# Altium footprint library lib.PcbLib: 64 footprints (part 2 of 4)
Each footprint in its own frame and in the unit in brackets; x right, y up, seen from the top. Pads: shape width x height; smd on the part's side, far side on the other; paste and mask are expansions set on the pad; w line width, h text height; cw(c..) or ccw(c..) is an arc to the next point about the centre after c.
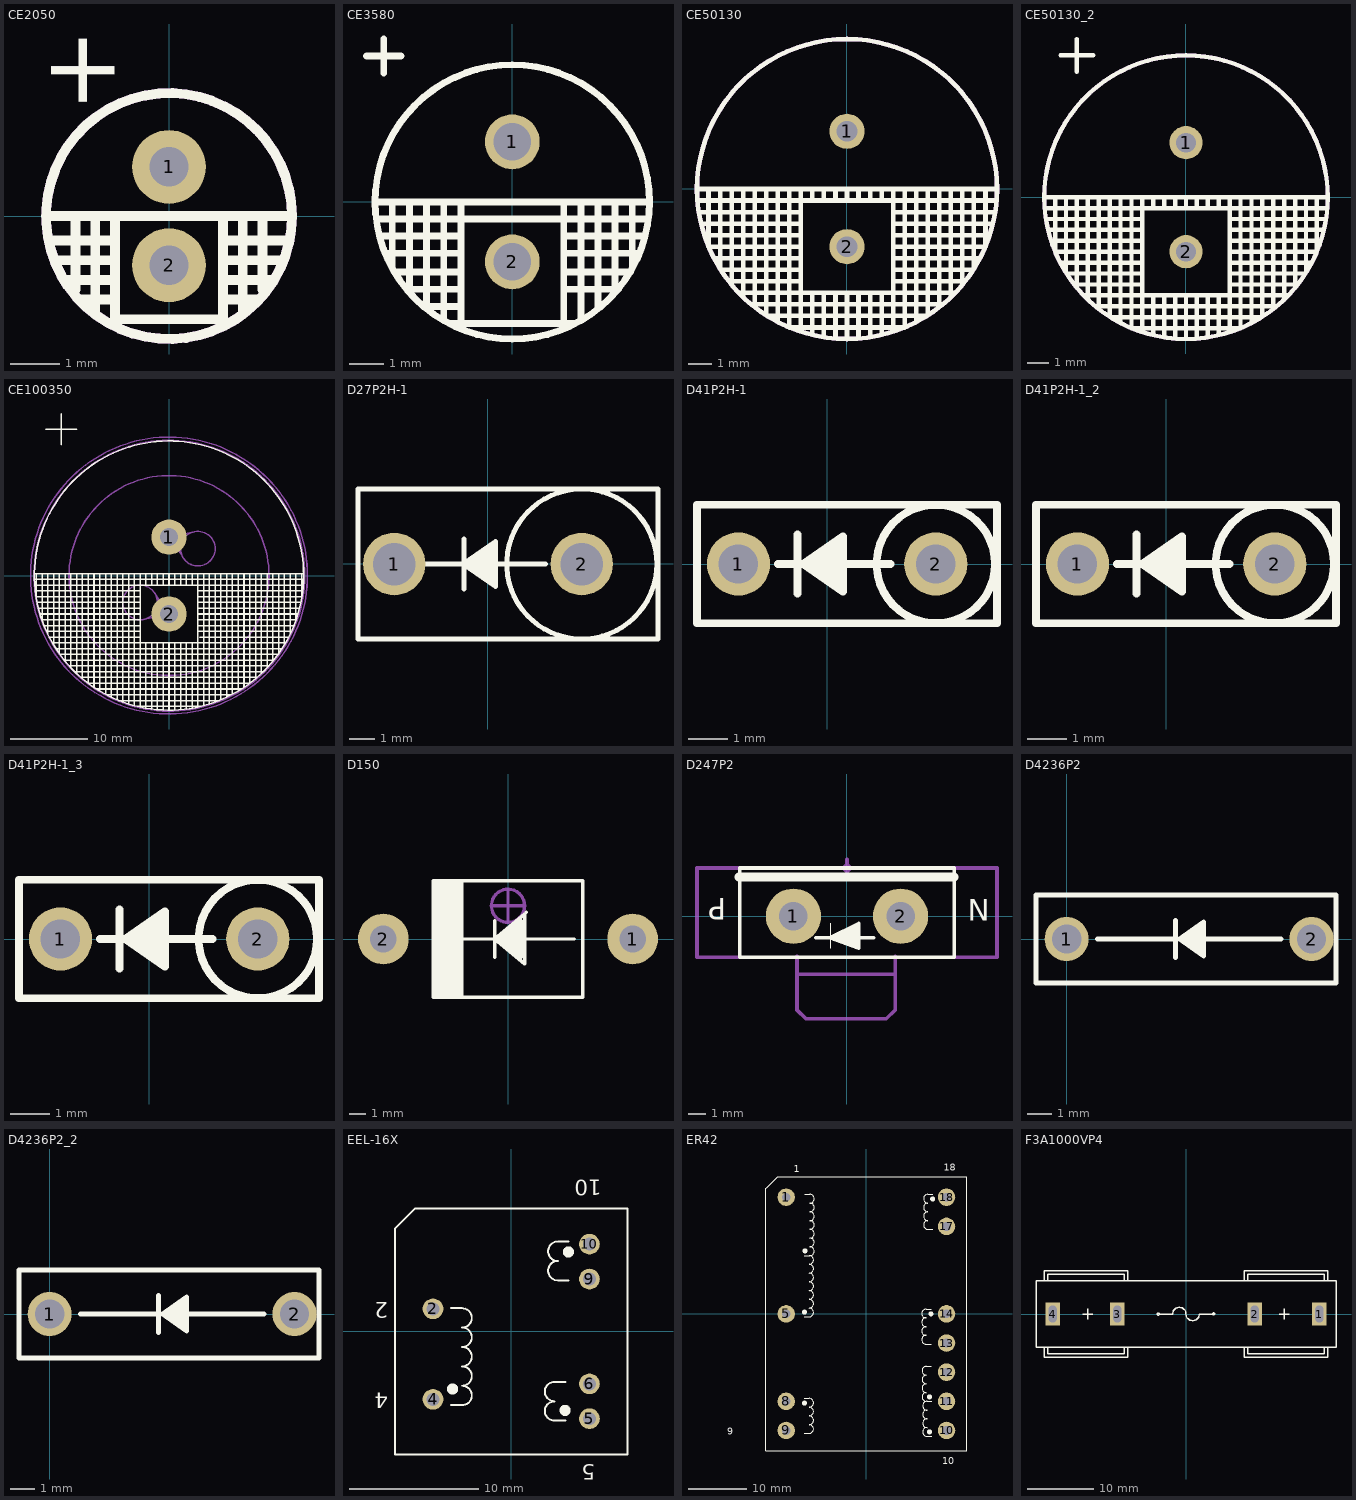
[diagram p1: the footprints below, top view; thin cyan lines are the x and y axes]

## CE2050 [mm]
pads (2):
  round 1.5 hole 0.8: 1(0,1) 2(0,-1)
Top Overlay:
  circle w0.2: c0,0 r2.5
  lines w0.2: -2.5,0 2.5,0 ; -2.4,-0.5 -1.1,-0.5 ; -2.3,-0.9 -1.1,-0.9 ; -2.1,-1.3 -1.1,-1.3 ; -1.9,-1.5 -1.9,0 ; -1.8,-1.7 -1.1,-1.7 ; -1.5,-2 -1.5,0 ; -1.1,0 -1.1,-2.1 1.1,-2.1 1.1,0 ; 1.1,-1.7 1.8,-1.7 ; 1.1,-1.3 2.1,-1.3 ; 1.1,-0.9 2.3,-0.9 ; 1.1,-0.5 2.4,-0.5 ; 1.5,-2 1.5,0 ; 1.9,-1.5 1.9,0
  text "+" at -1.1,2.1 h1.5
Mechanical 10:
  circle w0.2: c0,0 r2.5
  circle w0.2: c0,0 r2.5
3D body: height 11, standoff 0, extent -2.5,-2.5 2.5,2.5

## CE3580 [mm]
height 20
pads (2):
  round 1.6 hole 1.1: 1(0,1.75) 2(0,-1.75)
Top Overlay:
  circle w0.2: c0,0 r4
  lines w0.2: -4.25,4.25 -3.25,4.25 ; -4,0 4,0 ; -3.95,-0.5 3.95,-0.5 ; -3.85,-1 -1.5,-1 ; -3.75,3.75 -3.75,4.75 ; -3.7,-1.5 -1.5,-1.5 ; -3.5,-1.9 -3.5,0 ; -3.4,-2.05 -1.5,-2.05 ; -3.05,-2.55 -1.5,-2.55 ; -3,-2.6 -3,0 ; -2.55,-3.05 -1.5,-3.05 ; -2.5,-3.1 -2.5,0 ; -2,-3.45 -2,0 ; -1.8,-3.55 -1.5,-3.55 1.8,-3.55 ; -1.5,-3.7 -1.5,-1 ; -1.5,0 -1.5,-1 ; 1.5,-3.7 1.5,-1 ; 1.5,-2.55 3.1,-2.55 ; 1.5,-2.05 3.45,-2.05 ; 1.5,-1.5 3.7,-1.5 ; 1.5,0 1.5,-1 ; 2,-3.45 2,0 ; 2.5,-3.1 2.5,0 ; 3,-2.6 3,0 ; 3.5,-1.9 3.5,0 ; 3.85,-1 1.5,-1
3D body: height 20, standoff 0, extent -3.975,-4 3.993,3.984

## CE50130 [mil]
height 1673.23
pads (2):
  round 60 hole 35.43: 1(0,98.43) 2(0,-98.42)
Top Overlay:
  circle w7.87: c0,0 r255.91
  lines w7.87: -255.91,0 -246.06,0 255.91,0 ; -253.94,-19.68 253.94,-19.68 ; -251.97,-39.37 -78.74,-39.37 ; -248.03,-59.05 -78.74,-59.05 ; -242.13,-78.74 -78.74,-78.74 ; -236.22,0 -236.22,-98.42 -78.74,-98.42 ; -226.38,-118.11 -78.74,-118.11 ; -216.54,-135.83 -216.54,0 ; -214.57,-137.79 -78.74,-137.79 ; -200.79,-157.48 -78.74,-157.48 ; -196.85,-163.39 -196.85,0 ; -183.07,-177.16 185.04,-177.16 ; -177.17,-183.07 -177.17,0 ; -163.39,-196.85 163.39,-196.85 ; -157.48,-200.79 -157.48,0 ; -137.8,-214.57 -137.8,0 ; -135.83,-216.53 135.83,-216.53 ; -118.11,-226.38 -118.11,0 ; -98.43,-236.22 -98.43,0 ; -96.46,-236.22 98.42,-236.22 98.42,0 ; -78.74,-242.13 -78.74,0 ; -59.06,-248.03 -59.06,-177.16 ; -59.06,-19.68 -59.06,0 ; -39.37,-251.97 -39.37,-177.16 ; -39.37,-19.68 -39.37,0 ; -19.69,-253.94 -19.69,-177.16 ; -19.69,-19.68 -19.69,0 ; 0,-255.91 0,-177.16 ; 0,-19.68 0,0 ; 19.68,-253.94 19.68,-177.16 ; 19.68,-19.68 19.68,0 ; 39.37,-251.97 39.37,-177.16 ; 39.37,-19.68 39.37,0 ; 59.05,-248.03 59.05,-177.16 ; 59.05,-19.68 59.05,0 ; 78.74,-242.13 78.74,0 ; 78.74,-157.48 200.79,-157.48 ; 78.74,-137.79 214.57,-137.79 ; 78.74,-118.11 226.38,-118.11 ; 78.74,-98.42 236.22,-98.42 236.22,0 ; 78.74,-78.74 242.13,-78.74 ; 78.74,-59.05 248.03,-59.05 ; 78.74,-39.37 251.97,-39.37 ; 118.11,-226.38 118.11,0 ; 137.79,-214.57 137.79,0 ; 157.48,-200.79 157.48,0 ; 177.16,-185.04 177.16,0 ; 196.85,-163.39 196.85,0 ; 216.53,-135.83 216.53,0
Mechanical 10:
  circle w7.87: c0,0 r255.91
3D body: height 1673.23, standoff 0, extent -255.89,-255.89 255.89,255.89

## CE50130_2 [mil]
pads (2):
  round 60 hole 35.43: 1(0,98.43) 2(0,-98.42)
Top Overlay:
  circle w7.87: c0,0 r255.91
  lines w7.87: -255.91,0 -246.06,0 255.91,0 ; -253.94,-19.68 253.94,-19.68 ; -251.97,-39.37 -78.74,-39.37 ; -248.03,-59.05 -78.74,-59.05 ; -242.13,-78.74 -78.74,-78.74 ; -236.22,0 -236.22,-98.42 -78.74,-98.42 ; -226.38,-118.11 -78.74,-118.11 ; -226.38,255.91 -167.32,255.91 ; -216.54,-135.83 -216.54,0 ; -214.57,-137.79 -78.74,-137.79 ; -200.79,-157.48 -78.74,-157.48 ; -196.85,-163.39 -196.85,0 ; -196.85,226.38 -196.85,285.43 ; -183.07,-177.16 185.04,-177.16 ; -177.17,-183.07 -177.17,0 ; -163.39,-196.85 163.39,-196.85 ; -157.48,-200.79 -157.48,0 ; -137.8,-214.57 -137.8,0 ; -135.83,-216.53 135.83,-216.53 ; -118.11,-226.38 -118.11,0 ; -98.43,-236.22 -98.43,0 ; -96.46,-236.22 98.42,-236.22 98.42,0 ; -78.74,-242.13 -78.74,0 ; -59.06,-248.03 -59.06,-177.16 ; -59.06,-19.68 -59.06,0 ; -39.37,-251.97 -39.37,-177.16 ; -39.37,-19.68 -39.37,0 ; -19.69,-253.94 -19.69,-177.16 ; -19.69,-19.68 -19.69,0 ; 0,-255.91 0,-177.16 ; 0,-19.68 0,0 ; 19.68,-253.94 19.68,-177.16 ; 19.68,-19.68 19.68,0 ; 39.37,-251.97 39.37,-177.16 ; 39.37,-19.68 39.37,0 ; 59.05,-248.03 59.05,-177.16 ; 59.05,-19.68 59.05,0 ; 78.74,-242.13 78.74,0 ; 78.74,-157.48 200.79,-157.48 ; 78.74,-137.79 214.57,-137.79 ; 78.74,-118.11 226.38,-118.11 ; 78.74,-98.42 236.22,-98.42 236.22,0 ; 78.74,-78.74 242.13,-78.74 ; 78.74,-59.05 248.03,-59.05 ; 78.74,-39.37 251.97,-39.37 ; 118.11,-226.38 118.11,0 ; 137.79,-214.57 137.79,0 ; 157.48,-200.79 157.48,0 ; 177.16,-185.04 177.16,0 ; 196.85,-163.39 196.85,0 ; 216.53,-135.83 216.53,0
Mechanical 10:
  circle w7.87: c0,0 r255.91
3D body: height 1673.23, standoff 0, extent -256.29,-256.29 256.29,256.29

## CE100350 [mm]
height 61
pads (2):
  round 4.572 hole 2.3: 1(0,5) 2(0,-5)
Top Overlay:
  circle w0.2: c0,0 r17.5
  lines w0.2: -17.5,-0.5 17.5,-0.5 ; -17.5,0.25 17.5,0.25 ; -17.45,-1.25 17.45,-1.25 ; -17.35,-2 -3.75,-2 ; -17.25,-2.9 -17.25,0.25 ; -17.25,-2.75 -3.75,-2.75 ; -17.15,-3.5 -3.75,-3.5 ; -16.95,-4.25 -3.75,-4.25 ; -16.75,-5 -3.75,-5 ; -16.5,-5.8 -16.5,0.25 ; -16.5,-5.75 -3.75,-5.75 ; -16.25,-6.5 -3.75,-6.5 ; -16,19 -12,19 ; -15.9,-7.25 -3.75,-7.25 ; -15.75,-7.6 -15.75,0.25 ; -15.55,-8 -3.75,-8 ; -15.15,-8.75 15.15,-8.75 ; -15,-9 -15,0.25 ; -14.7,-9.5 14.7,-9.5 ; -14.25,-10.15 -14.25,0.25 ; -14.15,-10.25 14.15,-10.25 ; -14,17 -14,21 ; -13.6,-11 13.6,-11 ; -13.5,-11.1 -13.5,0.25 ; -12.95,-11.75 12.95,-11.75 ; -12.75,-11.95 -12.75,0.25 ; -12.25,-12.5 12.25,-12.5 ; -12,-12.75 -12,0.25 ; -11.4,-13.25 11.4,-13.25 ; -11.25,-13.4 -11.25,0.25 ; -10.5,0.25 -10.5,-14 10.5,-14 10.5,0.25 ; -9.75,-14.5 -9.75,0.25 ; -9.4,-14.75 9.4,-14.75 ; -9,-15 -9,0.25 ; -8.25,-15.4 -8.25,0.25 ; -8.1,-15.5 8.1,-15.5 ; -7.5,-15.8 -7.5,0.25 ; -6.75,-16.15 -6.75,0.25 ; -6.5,-16.25 6.5,-16.25 ; -6,-16.45 -6,0.25 ; -5.25,-16.7 -5.25,0.25 ; -4.5,-16.9 -4.5,0.25 ; -4.1,-17 4.1,-17 ; -3.75,-17.1 -3.75,0.25 ; -3,-17.25 -3,-8.75 ; -3,-1.25 -3,0.25 ; -2.25,-17.35 -2.25,-8.75 ; -2.25,-1.25 -2.25,0.25 ; -1.5,-17.45 -1.5,-8.75 ; -1.5,-1.25 -1.5,0.25 ; -0.75,-17.5 -0.75,-8.75 ; -0.75,-1.25 -0.75,0.25 ; 0,-17.5 0,-8.75 ; 0,-1.25 0,0.25 ; 0.75,-17.5 0.75,-8.75 ; 0.75,-1.25 0.75,0.25 ; 1.5,-17.45 1.5,-8.75 ; 1.5,-1.25 1.5,0.25 ; 2.25,-17.35 2.25,-8.75 ; 2.25,-1.25 2.25,0.25 ; 3,-17.25 3,-8.75 ; 3,-1.25 3,0.25 ; 3.75,-17.1 3.75,0.25 ; 3.75,-7.25 15.9,-7.25 ; 3.75,-6.5 16.25,-6.5 ; 3.75,-5.75 16.5,-5.75 ; 3.75,-5 16.75,-5 ; 3.75,-4.25 16.95,-4.25 ; 3.75,-3.5 17.15,-3.5 ; 3.75,-2.75 17.25,-2.75 ; 3.75,-2 17.4,-2 ; 4,-8 15.55,-8 ; 4.5,-16.9 4.5,0.25 ; 5.25,-16.7 5.25,0.25 ; 6,-16.45 6,0.25 ; 6.75,-16.15 6.75,0.25 ; 7.5,-15.8 7.5,0.25 ; 8.25,-15.45 8.25,0.25 ; 9,-15 9,0.25 ; 9.75,-14.55 9.75,0.25 ; 11.25,-13.4 11.25,0.25 ; 12,-12.75 12,0.25 ; 12.75,-12 12.75,0.25 ; 13.5,-11.15 13.5,0.25 ; 14.25,-10.15 14.25,0.25 ; 15,-9 15,0.25 ; 15.75,-7.6 15.75,0.25 ; 16.5,-5.8 16.5,0.25 ; 17.25,-2.95 17.25,0.25
Mechanical 9:
  circle w0.2: c0,0 r13
  circle w0.2: c0,0 r18
  circle w0.2: c3.75,3.5 r2.25
  circle w0.2: c-3.75,-3.5 r2.25
  lines w0.2: -3.2,-5.7 0,-5 -1.9,-2.2 ; 1.75,2.5 0,5 3.3,5.7
Mechanical 10:
  circle w0.254: c0.05,-0.025 r17.584
3D body: height 61, standoff 0, extent -17.533,-17.608 17.633,17.558

## D27P2H-1 [mm]
height 19
pads (2):
  round 2.5 hole 1.7: 1(-3.75,0) 2(3.75,0)
Top Overlay:
  circle w0.2: c3.75,0 r3
  lines w0.2: -2.6,0 -0.95,0 ; -0.95,-1 -0.95,1 ; 0.3,0 2.3,0 ; -5.2,-3 -5.2,3 6.8,3 6.8,-3 -5.2,-3 ; -1,0 0.3,0.9 0.3,-0.9 -1,0 ; -0.8,0 0.2,0.7 0.2,-0.7 -0.8,0 ; -0.6,0 0.1,0.5 0.1,-0.5 -0.6,0 ; -0.4,0 0,0.3 0,-0.3 -0.4,0 ; -0.2,0 -0.1,0.1 -0.1,-0.1 -0.2,0
3D body: height 14.1, standoff 0, extent -5.2,-3 6.8,3

## D41P2H-1 [mm]
height 19
pads (2):
  round 1.6 hole 1: 1(-2.25,0) 2(2.75,0)
Top Overlay:
  circle w0.2: c2.75,0 r1.5
  lines w0.2: -1.25,0 -0.75,0 ; -0.75,-0.75 -0.75,0.75 ; 0.5,0 1.6,0 ; -3.3,-1.5 -3.3,1.5 4.3,1.5 4.3,-1.5 -3.3,-1.5 ; -0.6,0 0.4,0.7 0.4,-0.7 -0.6,0 ; -0.4,0 0.3,0.5 0.3,-0.5 -0.4,0 ; -0.2,0 0.2,0.3 0.2,-0.3 -0.2,0 ; 0,0 0.1,0.1 0.1,-0.1 0,0
3D body: height 14.1, standoff 0, extent -3.3,-1.5 4.3,1.5

## D41P2H-1_2 [mm]
pads (2):
  round 1.6 hole 1: 1(-2.25,0) 2(2.75,0)
Top Overlay:
  circle w0.2: c2.75,0 r1.5
  lines w0.2: -1.25,0 -0.75,0 ; -0.75,-0.75 -0.75,0.75 ; 0.5,0 1.6,0 ; -3.3,-1.5 -3.3,1.5 4.3,1.5 4.3,-1.5 -3.3,-1.5 ; -0.6,0 0.4,0.7 0.4,-0.7 -0.6,0 ; -0.4,0 0.3,0.5 0.3,-0.5 -0.4,0 ; -0.2,0 0.2,0.3 0.2,-0.3 -0.2,0 ; 0,0 0.1,0.1 0.1,-0.1 0,0
3D body: height 14.1, standoff 0, extent -3.3,-1.5 4.3,1.5

## D41P2H-1_3 [mm]
pads (2):
  round 1.6 hole 1: 1(-2.25,0) 2(2.75,0)
Top Overlay:
  circle w0.2: c2.75,0 r1.5
  lines w0.2: -1.25,0 -0.75,0 ; -0.75,-0.75 -0.75,0.75 ; 0.5,0 1.6,0 ; -3.3,-1.5 4.3,-1.5 4.3,1.5 -3.3,1.5 -3.3,-1.5 ; -0.6,0 0.4,-0.7 0.4,0.7 -0.6,0 ; -0.4,0 0.3,-0.5 0.3,0.5 -0.4,0 ; -0.2,0 0.2,-0.3 0.2,0.3 -0.2,0 ; 0,0 0.1,-0.1 0.1,0.1 0,0
3D body: height 14.1, standoff 0, extent -3.3,-1.5 4.3,1.5

## D150 [mm]
height 9.33
pads (2):
  round 3.048 hole 1.6: 1(7.5,0) 2(-7.5,0)
Top Overlay:
  region: -4.5,-3.5 -2.7,-3.5 -2.7,3.5 -4.5,3.5
  lines w0.2: -4,0 -0.8,0 ; -0.8,-1.1 -0.8,1.1 ; 0.8,0 4,0 ; 1.1,1.6 1,1.5 ; -0.8,0 1,1.5 ; -0.8,0 1,-1.5 1,1.5 ; -0.8,0 0.8,-1.1 0.8,1.1 -0.8,0 ; -4.5,-3.5 -4.5,3.5 4.5,3.5 4.5,-3.5 -4.5,-3.5 ; -0.6,0 0.7,-0.9 0.7,0.9 -0.6,0 ; -0.4,0 0.6,-0.7 0.6,0.7 -0.4,0 ; -0.2,0 0.5,-0.5 0.5,0.5 -0.2,0 ; 0,0 0.4,-0.3 0.4,0.3 0,0 ; 0.2,0 0.3,-0.1 0.3,0.1 0.2,0
Mechanical 9:
  circle w0.2: c0,2 r1
  lines w0.2: -1,2 1,2 ; 0,1 0,3
3D body: height 9.33, standoff 0, extent -4.6,-3.6 4.6,3.6

## D247P2 [mm]
height 38.68
pads (2):
  round 3.1 hole 1.6: 1(-3,0) 2(3,0)
Top Overlay:
  lines w0.05: -0.95,-1.8 -0.95,-1.7 -0.95,-0.4
  lines w0.2: -1.75,-1.2 -0.95,-1.2 ; -0.15,-1.2 0.35,-1 0.35,-1.2 -0.05,-1.2 ; 0.65,-1.2 1.5,-1.2 ; -0.95,-1.2 0.65,-0.4 0.65,-1.6 0.65,-1.8 -0.95,-1.2 ; -6,-2.3 -6,2.7 6,2.7 6,-2.3 -6,-2.3 ; -0.75,-1.2 0.55,-0.6 0.55,-1.6 -0.75,-1.2 ; -0.45,-1.2 0.45,-0.8 0.45,-1.4 -0.45,-1.2
  lines w0.5: -6.049,2.2 6,2.2
  text "P" at -6.75,1 h1.2
  text "N" at 6.75,-0.25 h1.2
Bottom Overlay:
  text "P" at -7.689,-0.625 h1.2
  text "N" at 9.134,-0.925 h1.2
Mechanical 9:
  circle w0.2: c0,2.7 r0.15
  lines w0.2: -5.95,-2.3 -8.4,-2.3 -8.4,2.7 -5.95,2.7 ; -2.8,-3.25 2.7,-3.25 ; -2.8,-2.25 -2.8,-5.25 -2.3,-5.75 1.7,-5.75 2.2,-5.75 2.7,-5.25 2.7,-2.25 ; -0.6,2.7 -0.1,2.7 0.05,2.7 0.55,2.7 ; 0,2.15 0,2.7 0,3.2 ; 6,-2.3 8.4,-2.3 8.4,2.7 6,2.7
  text "NUT+INSB" at -2.259,3.785 h1.2
3D body: height 38.68, standoff 0, extent -8.4,-2.4 8.4,2.8

## D4236P2 [mm]
pads (2):
  round 1.8 hole 1.2: 1(0,0) 2(10,0)
Top Overlay:
  lines w0.2: -1.25,-1.8 11,-1.8 ; -1.25,-1.75 -1.25,1.8 11,1.8 11,-1.75 ; 1.25,0 4.45,0 ; 4.45,-0.75 4.45,0.75 ; 5.6,0 8.75,0 ; 4.6,0 5.6,0.7 5.6,-0.7 4.6,0 ; 4.8,0 5.5,0.5 5.5,-0.5 4.8,0 ; 5,0 5.4,0.3 5.4,-0.3 5,0 ; 5.2,0 5.3,0.1 5.3,-0.1 5.2,0
3D body: height 14.1, standoff 0, extent -1.25,-1.8 11,1.8

## D4236P2_2 [mm]
pads (2):
  round 1.8 hole 1.2: 1(0,0) 2(10,0)
Top Overlay:
  lines w0.2: -1.25,-1.8 11,-1.8 ; -1.25,-1.75 -1.25,1.8 11,1.8 11,-1.75 ; 1.25,0 4.45,0 ; 4.45,-0.75 4.45,0.75 ; 5.6,0 8.75,0 ; 4.6,0 5.6,-0.7 5.6,0.7 4.6,0 ; 4.8,0 5.5,-0.5 5.5,0.5 4.8,0 ; 5,0 5.4,-0.3 5.4,0.3 5,0 ; 5.2,0 5.3,-0.1 5.3,0.1 5.2,0
3D body: height 14.1, standoff 0, extent -1.25,-1.8 11,1.8

## EEL-16X [mm]
height 28.14
pads (6):
  round 1.6 hole 1: 2(-6.05,1.75) 4(-6.05,-5.25) 5(6.05,-6.75) 6(6.05,-4.05) 9(6.05,4.05) 10(6.05,6.75)
Top Overlay:
  circle w0.5: c-4.531,-4.45 r0.181
  circle w0.5: c4.419,6.15 r0.181
  circle w0.5: c4.169,-6.1 r0.181
  lines w0.15: -4.65,-5.7 -3.8,-5.7 ccw(c-3.8,-4.95) -3.8,-4.2 ccw(c-3.8,-3.45) -3.8,-2.7 ccw(c-3.8,-1.95) -3.8,-1.2 ccw(c-3.8,-0.45) -3.8,0.3 ccw(c-3.8,1.05) -3.8,1.8 -4.65,1.8 ; 4.2,-6.9 3.35,-6.9 cw(c3.35,-6.15) 3.35,-5.4 cw(c3.35,-4.65) 3.35,-3.9 4.2,-3.9 ; 4.45,3.95 3.6,3.95 cw(c3.6,4.7) 3.6,5.45 cw(c3.6,6.2) 3.6,6.95 4.45,6.95 ; -9,-9.5 -9,7.95 -7.45,9.5 9,9.5 9,-9.5 -9,-9.5
  text "10" at 7,11.75 h1.2
  text "5" at 6.5,-10.25 h1.2
  text "4" at -9.5,-4.75 h1.2
  text "2" at -9.5,2.25 h1.2

## ER42 [mm]
pads (11):
  round 3 hole 1.5: 1(-13.75,20) 5(-13.75,0) 8(-13.75,-15) 9(-13.75,-20) 10(13.75,-20) 11(13.75,-15) 12(13.75,-10) 13(13.75,-5) 14(13.75,0) 17(13.75,15) 18(13.75,20)
Top Overlay:
  circle w0.5: c-10.619,-15.3 r0.181
  circle w0.5: c11.069,0 r0.181
  circle w0.5: c11.369,19.7 r0.181
  circle w0.5: c10.819,-20.25 r0.181
  circle w0.5: c10.819,-14.25 r0.181
  circle w0.5: c-10.519,10.8 r0.181
  circle w0.5: c-10.619,0.3 r0.181
  lines w0.15: -17.125,21.625 -15.2,23.55 16.75,23.55 17.25,23.55 17.25,-23.5 -17.25,-23.5 -17.25,21.5 -17,21.75 ; -10.65,-20.5 -9.8,-20.5 ccw(c-9.8,-19.75) -9.8,-19 ccw(c-9.8,-18.25) -9.8,-17.5 ccw(c-9.8,-16.75) -9.8,-16 ccw(c-9.8,-15.25) -9.8,-14.5 -10.65,-14.5 ; -10.65,-0.5 -9.8,-0.5 ccw(c-9.8,0.25) -9.8,1 ccw(c-9.8,1.75) -9.8,2.5 ccw(c-9.8,3.25) -9.8,4 ccw(c-9.8,4.75) -9.8,5.5 ccw(c-9.8,6.25) -9.8,7 ccw(c-9.8,7.75) -9.8,8.5 ccw(c-9.8,9.25) -9.8,10 -10.65,10 ; -10.55,20.5 -9.7,20.5 cw(c-9.7,19.75) -9.7,19 cw(c-9.7,18.25) -9.7,17.5 cw(c-9.7,16.75) -9.7,16 cw(c-9.7,15.25) -9.7,14.5 cw(c-9.7,13.75) -9.7,13 cw(c-9.7,12.25) -9.7,11.5 cw(c-9.7,10.75) -9.7,10 ; 10.25,-5.2 11.1,-5.2 ; 10.25,-5.2 cw(c10.25,-4.45) 10.25,-3.7 cw(c10.25,-2.95) 10.25,-2.2 cw(c10.25,-1.45) 10.25,-0.7 cw(c10.25,0.05) 10.25,0.8 11.1,0.8 ; 10.3,-15 cw(c10.3,-14.25) 10.3,-13.5 cw(c10.3,-12.75) 10.3,-12 cw(c10.3,-11.25) 10.3,-10.5 cw(c10.3,-9.75) 10.3,-9 11.15,-9 ; 11.25,-21 10.4,-21 cw(c10.4,-20.25) 10.4,-19.5 cw(c10.4,-18.75) 10.4,-18 cw(c10.4,-17.25) 10.4,-16.5 cw(c10.4,-15.75) 10.4,-15 11.25,-15 ; 11.4,14.5 10.55,14.5 cw(c10.55,15.25) 10.55,16 cw(c10.55,16.75) 10.55,17.5 cw(c10.55,18.25) 10.55,19 cw(c10.55,19.75) 10.55,20.5 11.4,20.5
  text "18" at 13.25,24.5 h1.2
  text "10" at 13,-25.75 h1.2
  text "9" at -23.9,-20.75 h1.2
  text "1" at -12.5,24.25 h1.2

## F3A1000VP4 [mm]
height 0.5
pads (4):
  rect 2.2x3.5 hole 1.2 slot 2.5 at 90 deg: 1(20,0) 2(10.3,0) 3(-10.3,0) 4(-20,0)
Top Overlay:
  circle w0.2: c-4.17,-0.02 r0.16
  circle w0.2: c4.14,0.01 r0.15
  lines w0.2: -21.25,-5 -21.25,-6.5 -8.75,-6.5 -8.75,-5 ; -21.25,5 -21.25,6.5 -8.75,6.5 -8.75,5 ; -20.75,-5 -20.75,-6 -9.25,-6 -9.25,-5 ; -20.75,5 -20.75,6 -9.25,6 -9.25,5 ; -15.5,0 -14,0 ; -14.75,-0.75 -14.75,0.75 ; -4,0 -2,0 cw(c-1,0) 0,0 ccw(c1,0) 2,0 4,0 ; 8.75,-5 8.75,-6.5 21.25,-6.5 21.25,-5 ; 8.75,5 8.75,6.5 21.25,6.5 21.25,5 ; 9.25,-5 9.25,-6 20.75,-6 20.75,-5 ; 9.25,5 9.25,6 20.75,6 20.75,5 ; 14,0 15.5,0 ; 14.75,-0.75 14.75,0.75 ; -22.5,-5 -22.5,5 22.5,5 22.5,-5 -22.5,-5
3D body: height 14, standoff 0, extent -22.5,-5 22.5,5